# Altium schematic symbol library ST-Link V2.SchLib: 1 symbol
Pins are listed as number, name and electrical type; pins without a type are passive.

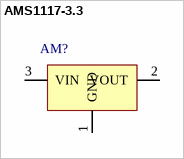
[diagram p0: symbol AMS1117-3.3]

## AMS1117-3.3
designator AM?
footprint SOT89_M (4.6x4.3x1.6mm(长宽高) 封装库来自淘宝卖家 ID：黄晶宝石)
pins: 1 GND, 2 VOUT, 3 VIN